# Altium footprint library Fuente.PcbLib: 6 footprints
Each footprint in its own frame and in the unit in brackets; x right, y up, seen from the top. Pads: shape width x height; smd on the part's side, far side on the other; paste and mask are expansions set on the pad; w line width, h text height; cw(c..) or ccw(c..) is an arc to the next point about the centre after c.
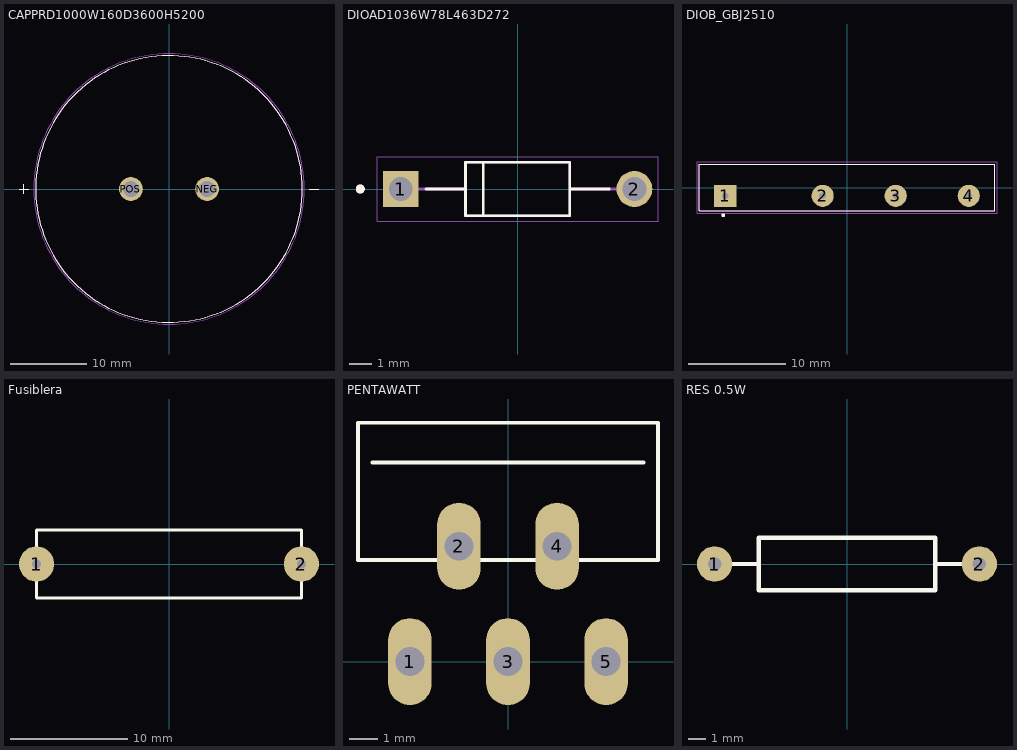
[diagram p0: the footprints below, top view; thin cyan lines are the x and y axes]

## CAPPRD1000W160D3600H5200 [mm]
pads (2):
  round 3.116 hole 2.1: NEG(5,0) POS(-5,0)
Top Overlay:
  circle w0.127: c0,0 r17.5
  lines w0.127: -19.685,0 -18.415,0 ; -19.05,-0.635 -19.05,0.635 ; 18.415,0 19.685,0
Mechanical 13:
  circle w0.127: c0,0 r17.5
  lines w0.127: -19.685,0 -18.415,0 ; -19.05,-0.635 -19.05,0.635 ; 18.415,0 19.685,0
Mechanical 15:
  circle w0.05: c0,0 r17.75

## DIOAD1036W78L463D272 [mm]
height 2.72
pads (2):
  rect 1.59x1.59 hole 1.06: 1(-5.18,0)
  round 1.59 hole 1.06: 2(5.18,0)
Top Overlay:
  circle w0.2: c-6.975,0 r0.1
  lines w0.127: -4.065,0 -2.315,0 ; -1.524,-1.143 -1.524,1.143 ; 4.065,0 2.315,0 ; -2.315,0 -2.315,-1.188 2.315,-1.188 2.315,0 ; -2.315,0 -2.315,1.188 2.315,1.188 2.315,0
Mechanical 13:
  circle w0.2: c-6.975,0 r0.1
  lines w0.127: -5.18,0 -2.315,0 ; 5.18,0 2.315,0 ; -2.315,0 -2.315,-1.188 2.315,-1.188 2.315,0 ; -2.315,0 -2.315,1.188 2.315,1.188 2.315,0
Mechanical 15:
  lines w0.05: -6.225,-1.438 -6.225,1.438 6.225,1.438 6.225,-1.438 -6.225,-1.438
3D body "step_temp.STEP": height 2.72, standoff -21.88, extent -5.288,-1.36 5.288,1.36

## DIOB_GBJ2510 [mm]
pads (4):
  rect 2.27x2.27 hole 0.7: 1(-12.5,-0.85)
  round 2.27 hole 0.7: 2(-2.5,-0.85) 3(5,-0.85) 4(12.5,-0.85)
Top Overlay:
  circle w0.2: c-12.7,-2.85 r0.1
  lines w0.127: -15.15,-2.4 15.15,-2.4 15.15,2.4 -15.15,2.4 -15.15,-2.4
Mechanical 13:
  circle w0.2: c-12.7,-2.85 r0.1
  lines w0.127: -15.15,-2.4 15.15,-2.4 15.15,2.4 -15.15,2.4 -15.15,-2.4
Mechanical 15:
  lines w0.05: -15.4,-2.65 15.4,-2.65 15.4,2.65 -15.4,2.65 -15.4,-2.65
3D body "GBJ2510.STEP": height 24.5, standoff -13.8, extent -14.859,-2.427 15.141,2.173

## Fusiblera [mm]
pads (2):
  round 3 hole 0.762: 1(-11.3,0) 2(11.3,0)
Top Overlay:
  lines w0.254: -11.3,-2.921 11.3,-2.921 11.3,2.921 -11.3,2.921 -11.3,-2.921
3D body "0ADKP9160-RE--3DModel-STEP-56544.STEP": height 6, standoff -32, extent -13.938,-3 13.938,3

## PENTAWATT [mm]
pads (5):
  oval 1.508x3.016 hole 1: 1(-3.4,0) 2(-1.7,4) 3(0,0) 4(1.7,4) 5(3.4,0)
Top Overlay:
  lines w0.127: -4.7,6.9 4.7,6.9 ; -5.2,3.525 -5.2,8.275 5.2,8.275 5.2,3.525 -5.2,3.525
3D body "TDA2050--3DModel-STEP-56544.STEP": height 21.15, standoff -4.55, extent -5.193,-0.186 5.207,8.314

## RES 0.5W [mm]
pads (2):
  round 2 hole 0.762: 1(-7.5,0) 2(7.5,0)
Top Overlay:
  lines w0.254: -7.5,0 -5,0 ; 5,0 7.5,0 ; -5,-1.5 5,-1.5 5,1.5 -5,1.5 -5,-1.5